# Altium integrated library NXP Semiconductors Automotive MOSFETs.IntLib: 540 symbols (part 14 of 16)
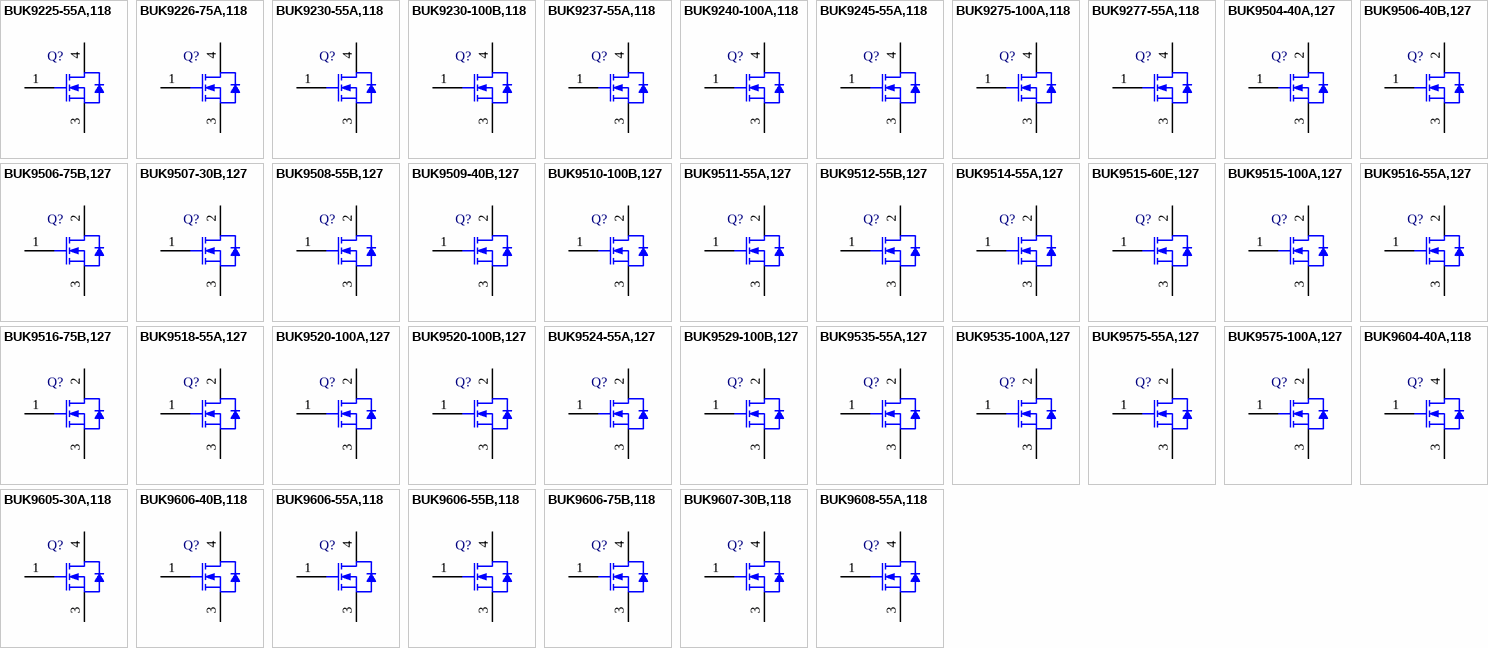
[diagram p27: symbols BUK9225-55A,118 to BUK9608-55A,118]

## BUK9606-40B,118
designator Q?
N-Channel TrenchMOS Logic Level FET, 40 V, 3-Pin SOT404, Tape and Reel; Manufacturer: NXP Semiconductors; PartNumber: BUK9606-40B,118; Automotive Qualified: Y; Channel Type: N; IDM [max] (A): 516; Packing: Tape & Reel; Qr [typ] (nC): 57; VDS [max] (V): 40; VGSth [typ] (V): 1.5; DatasheetVersion: Rev. 02; PackageVersion: 13-02-25, 02/2013; PackageReference: SOT404; PackageDescription: 3-Pin Plastic Single-ended Surface Mounted Package, Body 10 x 9.6 mm, Pitch 2.54 mm; Supplier 1: Digi-Key; Supplier Part Number 1: 568-5859-2-ND; Supplier 2: Digi-Key; Supplier Part Number 2: 568-5859-1-ND; Supplier 3: Digi-Key; Supplier Part Number 3: 568-5859-6-ND; Supplier 4: Mouser; Supplier Part Number 4: 771-BUK9606-40B118; Mounting Technology: Surface Mount; ComponentLink1Description: Manufacturer URL; ComponentLink1URL: http://www.nxp.com/; ComponentLink2Description: Datasheet; ComponentLink2URL: http://www.nxp.com/documents/data_sheet/BUK9606-40B.pdf; ComponentLink3Description: Package Specification; ComponentLink3URL: http://www.nxp.com/documents/outline_drawing/sot404_po.pdf
footprint NXP-SOT404_N (DPAK, 3-Leads, Body 10.3x9.8mm, Pitch 2.54mm, IPC Medium Density)
footprint NXP-SOT404_L (DPAK, 3-Leads, Body 10.3x9.8mm, Pitch 2.54mm, IPC High Density)
footprint NXP-SOT404_M (DPAK, 3-Leads, Body 10.3x9.8mm, Pitch 2.54mm, IPC Low Density)
pins: 1 G "gate", 3 S "source", 4 D "mounting base; connected to drain"

## BUK9606-55A,118
designator Q?
N-Channel TrenchMOS Logic Level FET, 55 V, 3-Pin SOT404, Tape and Reel; Manufacturer: NXP Semiconductors; PartNumber: BUK9606-55A,118; Automotive Qualified: Y; Channel Type: N; IDM [max] (A): 616; Packing: Tape & Reel; Qr [typ] (nC): 200; VDS [max] (V): 55; VGSth [typ] (V): 1.5; DatasheetVersion: Rev. 04; PackageVersion: 13-02-25, 02/2013; PackageReference: SOT404; PackageDescription: 3-Pin Plastic Single-ended Surface Mounted Package, Body 10 x 9.6 mm, Pitch 2.54 mm; Supplier 1: Digi-Key; Supplier Part Number 1: 568-9674-2-ND; Supplier 2: Digi-Key; Supplier Part Number 2: 568-9674-1-ND; Supplier 3: Digi-Key; Supplier Part Number 3: 568-9674-6-ND; Supplier 4: Mouser; Supplier Part Number 4: 771-BUK9606-55A118; Mounting Technology: Surface Mount; ComponentLink1Description: Manufacturer URL; ComponentLink1URL: http://www.nxp.com/; ComponentLink2Description: Datasheet; ComponentLink2URL: http://www.nxp.com/documents/data_sheet/BUK9606-55A.pdf; ComponentLink3Description: Package Specification; ComponentLink3URL: http://www.nxp.com/documents/outline_drawing/sot404_po.pdf
footprint NXP-SOT404_N (DPAK, 3-Leads, Body 10.3x9.8mm, Pitch 2.54mm, IPC Medium Density)
footprint NXP-SOT404_L (DPAK, 3-Leads, Body 10.3x9.8mm, Pitch 2.54mm, IPC High Density)
footprint NXP-SOT404_M (DPAK, 3-Leads, Body 10.3x9.8mm, Pitch 2.54mm, IPC Low Density)
pins: 1 G "gate", 3 S "source", 4 D "mounting base; connected to drain"

## BUK9606-55B,118
designator Q?
N-Channel TrenchMOS FET, 55 V, 3-Pin SOT404, Tape and Reel; Manufacturer: NXP Semiconductors; PartNumber: BUK9606-55B,118; Automotive Qualified: Y; Channel Type: N; IDM [max] (A): 587; Packing: Tape & Reel; Qr [typ] (nC): 79; VDS [max] (V): 55; VGSth [typ] (V): 1.5; DatasheetVersion: Rev. 04; PackageVersion: 13-02-25, 02/2013; PackageReference: SOT404; PackageDescription: 3-Pin Plastic Single-ended Surface Mounted Package, Body 10 x 9.6 mm, Pitch 2.54 mm; Supplier 1: Digi-Key; Supplier Part Number 1: 568-6584-2-ND; Supplier 2: Digi-Key; Supplier Part Number 2: 568-6584-1-ND; Supplier 3: Digi-Key; Supplier Part Number 3: 568-6584-6-ND; Supplier 4: Mouser; Supplier Part Number 4: 771-BUK9606-55B118; Mounting Technology: Surface Mount; ComponentLink1Description: Manufacturer URL; ComponentLink1URL: http://www.nxp.com/; ComponentLink2Description: Datasheet; ComponentLink2URL: http://www.nxp.com/documents/data_sheet/BUK9606-55B.pdf; ComponentLink3Description: Package Specification; ComponentLink3URL: http://www.nxp.com/documents/outline_drawing/sot404_po.pdf
footprint NXP-SOT404_N (DPAK, 3-Leads, Body 10.3x9.8mm, Pitch 2.54mm, IPC Medium Density)
footprint NXP-SOT404_L (DPAK, 3-Leads, Body 10.3x9.8mm, Pitch 2.54mm, IPC High Density)
footprint NXP-SOT404_M (DPAK, 3-Leads, Body 10.3x9.8mm, Pitch 2.54mm, IPC Low Density)
pins: 1 G "gate", 3 S "source", 4 D "mounting base; connected to drain"

## BUK9606-75B,118
designator Q?
N-Channel TrenchMOS Logic Level FET, 75 V, 3-Pin SOT404, Tape and Reel; Manufacturer: NXP Semiconductors; PartNumber: BUK9606-75B,118; Automotive Qualified: Y; Channel Type: N; IDM [max] (A): 612; Packing: Tape & Reel; Qr [typ] (nC): 176; VDS [max] (V): 75; VGSth [typ] (V): 1.5; DatasheetVersion: Rev. 4; PackageVersion: 13-02-25, 02/2013; PackageReference: SOT404; PackageDescription: 3-Pin Plastic Single-ended Surface Mounted Package, Body 10 x 9.6 mm, Pitch 2.54 mm; Supplier 1: Digi-Key; Supplier Part Number 1: 568-6585-2-ND; Supplier 2: Digi-Key; Supplier Part Number 2: 568-6585-1-ND; Supplier 3: Digi-Key; Supplier Part Number 3: 568-6585-6-ND; Supplier 4: Mouser; Supplier Part Number 4: 771-BUK9606-75B118; Mounting Technology: Surface Mount; ComponentLink1Description: Manufacturer URL; ComponentLink1URL: http://www.nxp.com/; ComponentLink2Description: Datasheet; ComponentLink2URL: http://www.nxp.com/documents/data_sheet/BUK9606-75B.pdf; ComponentLink3Description: Package Specification; ComponentLink3URL: http://www.nxp.com/documents/outline_drawing/sot404_po.pdf
footprint NXP-SOT404_N (DPAK, 3-Leads, Body 10.3x9.8mm, Pitch 2.54mm, IPC Medium Density)
footprint NXP-SOT404_L (DPAK, 3-Leads, Body 10.3x9.8mm, Pitch 2.54mm, IPC High Density)
footprint NXP-SOT404_M (DPAK, 3-Leads, Body 10.3x9.8mm, Pitch 2.54mm, IPC Low Density)
pins: 1 G "gate", 3 S "source", 4 D "mounting base; connected to drain"

## BUK9607-30B,118
designator Q?
N-Channel TrenchMOS Logic Level FET, 30 V, 3-Pin SOT404, Tape and Reel; Manufacturer: NXP Semiconductors; PartNumber: BUK9607-30B,118; Automotive Qualified: Y; Channel Type: N; IDM [max] (A): 435; Packing: Tape & Reel; Qr [typ] (nC): 35; VDS [max] (V): 30; VGSth [typ] (V): 1.5; DatasheetVersion: Rev. 02; PackageVersion: 13-02-25, 02/2013; PackageReference: SOT404; PackageDescription: 3-Pin Plastic Single-ended Surface Mounted Package, Body 10 x 9.6 mm, Pitch 2.54 mm; Supplier 1: Digi-Key; Supplier Part Number 1: 568-5860-2-ND; Supplier 2: Digi-Key; Supplier Part Number 2: 568-5860-1-ND; Supplier 3: Digi-Key; Supplier Part Number 3: 568-5860-6-ND; Supplier 4: Mouser; Supplier Part Number 4: 771-BUK9607-30B118; Mounting Technology: Surface Mount; ComponentLink1Description: Manufacturer URL; ComponentLink1URL: http://www.nxp.com/; ComponentLink2Description: Datasheet; ComponentLink2URL: http://www.nxp.com/documents/data_sheet/BUK9607-30B.pdf; ComponentLink3Description: Package Specification; ComponentLink3URL: http://www.nxp.com/documents/outline_drawing/sot404_po.pdf
footprint NXP-SOT404_N (DPAK, 3-Leads, Body 10.3x9.8mm, Pitch 2.54mm, IPC Medium Density)
footprint NXP-SOT404_L (DPAK, 3-Leads, Body 10.3x9.8mm, Pitch 2.54mm, IPC High Density)
footprint NXP-SOT404_M (DPAK, 3-Leads, Body 10.3x9.8mm, Pitch 2.54mm, IPC Low Density)
pins: 1 G "gate", 3 S "source", 4 D "mounting base; connected to drain"

## BUK9608-55A,118
designator Q?
N-Channel TrenchMOS Logic Level FET, 55 V, 3-Pin SOT404, Tape and Reel; Manufacturer: NXP Semiconductors; PartNumber: BUK9608-55A,118; Automotive Qualified: Y; Channel Type: N; IDM [max] (A): 503; Packing: Tape & Reel; Qr [typ] (nC): 170; VDS [max] (V): 55; VGSth [typ] (V): 1.5; DatasheetVersion: Rev. 04; PackageVersion: 13-02-25, 02/2013; PackageReference: SOT404; PackageDescription: 3-Pin Plastic Single-ended Surface Mounted Package, Body 10 x 9.6 mm, Pitch 2.54 mm; Supplier 1: Digi-Key; Supplier Part Number 1: 568-8031-2-ND; Supplier 2: Digi-Key; Supplier Part Number 2: 568-8031-1-ND; Supplier 3: Digi-Key; Supplier Part Number 3: 568-8031-6-ND; Supplier 4: Mouser; Supplier Part Number 4: 771-BUK9608-55A118; Mounting Technology: Surface Mount; ComponentLink1Description: Manufacturer URL; ComponentLink1URL: http://www.nxp.com/; ComponentLink2Description: Datasheet; ComponentLink2URL: http://www.nxp.com/documents/data_sheet/BUK9608-55A.pdf; ComponentLink3Description: Package Specification; ComponentLink3URL: http://www.nxp.com/documents/outline_drawing/sot404_po.pdf
footprint NXP-SOT404_N (DPAK, 3-Leads, Body 10.3x9.8mm, Pitch 2.54mm, IPC Medium Density)
footprint NXP-SOT404_L (DPAK, 3-Leads, Body 10.3x9.8mm, Pitch 2.54mm, IPC High Density)
footprint NXP-SOT404_M (DPAK, 3-Leads, Body 10.3x9.8mm, Pitch 2.54mm, IPC Low Density)
pins: 1 G "gate", 3 S "source", 4 D "mounting base; connected to drain"

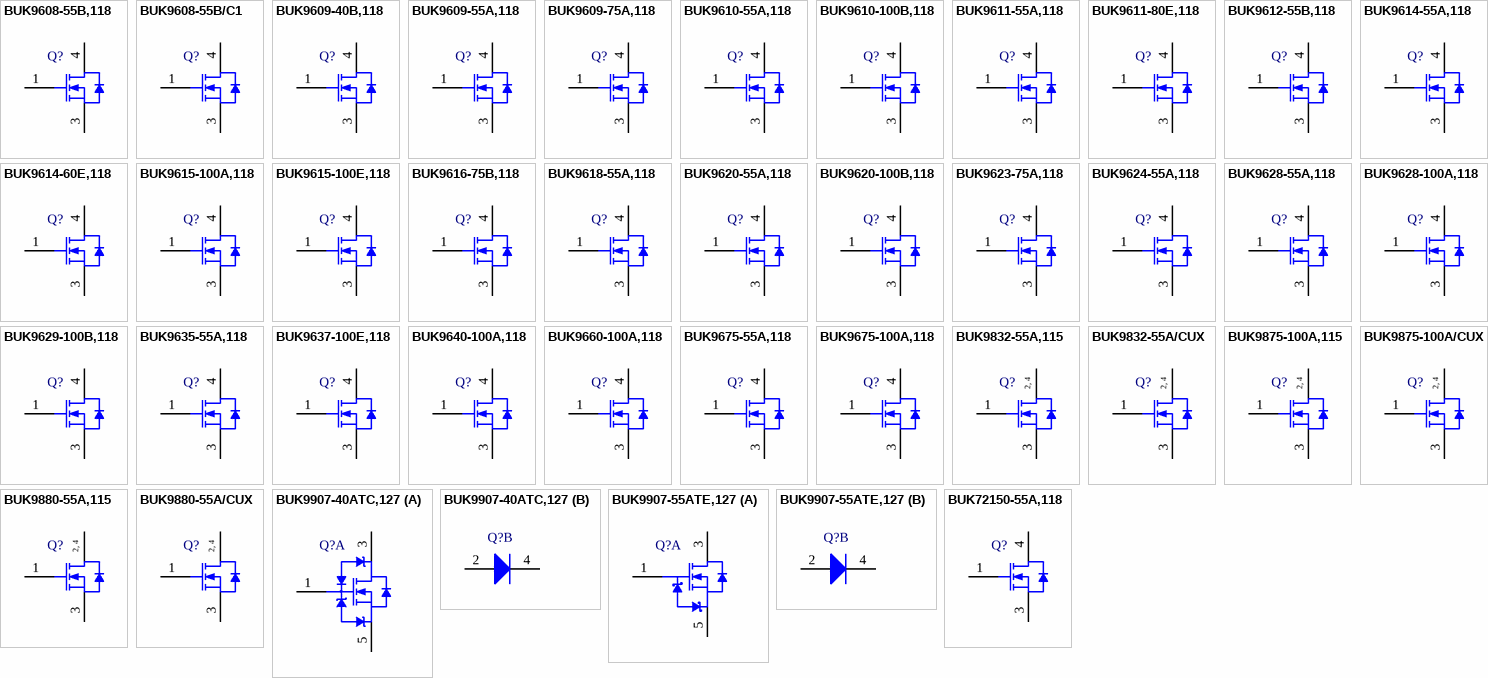
[diagram p13: symbols BUK9608-55B,118 to BUK72150-55A,118]

## BUK9608-55B,118
designator Q?
N-Channel TrenchMOS Logic Level FET, 55 V, 3-Pin SOT404, Tape and Reel; Manufacturer: NXP Semiconductors; PartNumber: BUK9608-55B,118; Automotive Qualified: Y; Channel Type: N; IDM [max] (A): 439; Packing: Tape & Reel; Qr [typ] (nC): 72; VDS [max] (V): 55; VGSth [typ] (V): 1.5; DatasheetVersion: Rev. 04; PackageVersion: 13-02-25, 02/2013; PackageReference: SOT404; PackageDescription: 3-Pin Plastic Single-ended Surface Mounted Package, Body 10 x 9.6 mm, Pitch 2.54 mm; Supplier 1: Digi-Key; Supplier Part Number 1: 568-5861-2-ND; Supplier 2: Digi-Key; Supplier Part Number 2: 568-5861-1-ND; Supplier 3: Digi-Key; Supplier Part Number 3: 568-5861-6-ND; Supplier 4: Newark; Supplier Part Number 4: 79R1859; Supplier 5: Newark; Supplier Part Number 5: 70R3592; Supplier 6: Mouser; Supplier Part Number 6: 771-BUK9608-55B118; Mounting Technology: Surface Mount; ComponentLink1Description: Manufacturer URL; ComponentLink1URL: http://www.nxp.com/; ComponentLink2Description: Datasheet; ComponentLink2URL: http://www.nxp.com/documents/data_sheet/BUK9608-55B.pdf; ComponentLink3Description: Package Specification; ComponentLink3URL: http://www.nxp.com/documents/outline_drawing/sot404_po.pdf
footprint NXP-SOT404_N (DPAK, 3-Leads, Body 10.3x9.8mm, Pitch 2.54mm, IPC Medium Density)
footprint NXP-SOT404_L (DPAK, 3-Leads, Body 10.3x9.8mm, Pitch 2.54mm, IPC High Density)
footprint NXP-SOT404_M (DPAK, 3-Leads, Body 10.3x9.8mm, Pitch 2.54mm, IPC Low Density)
pins: 1 G "gate", 3 S "source", 4 D "mounting base; connected to drain"

## BUK9608-55B/C1
designator Q?
N-Channel TrenchMOS Logic Level FET, 55 V, 3-Pin SOT404; Manufacturer: NXP Semiconductors; PartNumber: BUK9608-55B/C1; IDM [max] (A): 439; Qr [typ] (nC): 72; RDSon [max] @ Tj: 175degreesC (mOhm)=16.8; VGSth [typ] (V): 1.5; DatasheetVersion: Rev. 04; PackageVersion: 13-02-25, 02/2013; PackageReference: SOT404; PackageDescription: 3-Pin Plastic Single-ended Surface Mounted Package, Body 10 x 9.6 mm, Pitch 2.54 mm; Mounting Technology: Surface Mount; ComponentLink1Description: Manufacturer URL; ComponentLink1URL: http://www.nxp.com/; ComponentLink2Description: Datasheet; ComponentLink2URL: http://www.nxp.com/documents/data_sheet/BUK9608-55B.pdf; ComponentLink3Description: Package Specification; ComponentLink3URL: http://www.nxp.com/documents/outline_drawing/sot404_po.pdf
footprint NXP-SOT404_N (DPAK, 3-Leads, Body 10.3x9.8mm, Pitch 2.54mm, IPC Medium Density)
footprint NXP-SOT404_L (DPAK, 3-Leads, Body 10.3x9.8mm, Pitch 2.54mm, IPC High Density)
footprint NXP-SOT404_M (DPAK, 3-Leads, Body 10.3x9.8mm, Pitch 2.54mm, IPC Low Density)
pins: 1 G "gate", 3 S "source", 4 D "mounting base; connected to drain"

## BUK9609-40B,118
designator Q?
N-Channel TrenchMOS Logic Level FET, 40 V, 3-Pin SOT404, Tape and Reel; Manufacturer: NXP Semiconductors; PartNumber: BUK9609-40B,118; Automotive Qualified: Y; Channel Type: N; IDM [max] (A): 383; Packing: Tape & Reel; Qr [typ] (nC): 47; VDS [max] (V): 40; VGSth [typ] (V): 1.5; DatasheetVersion: Rev. 02; PackageVersion: 13-02-25, 02/2013; PackageReference: SOT404; PackageDescription: 3-Pin Plastic Single-ended Surface Mounted Package, Body 10 x 9.6 mm, Pitch 2.54 mm; Supplier 1: Digi-Key; Supplier Part Number 1: 568-5862-2-ND; Supplier 2: Digi-Key; Supplier Part Number 2: 568-5862-1-ND; Supplier 3: Digi-Key; Supplier Part Number 3: 568-5862-6-ND; Supplier 4: Mouser; Supplier Part Number 4: 771-BUK9609-40B118; Mounting Technology: Surface Mount; ComponentLink1Description: Manufacturer URL; ComponentLink1URL: http://www.nxp.com/; ComponentLink2Description: Datasheet; ComponentLink2URL: http://www.nxp.com/documents/data_sheet/BUK9609-40B.pdf; ComponentLink3Description: Package Specification; ComponentLink3URL: http://www.nxp.com/documents/outline_drawing/sot404_po.pdf
footprint NXP-SOT404_N (DPAK, 3-Leads, Body 10.3x9.8mm, Pitch 2.54mm, IPC Medium Density)
footprint NXP-SOT404_L (DPAK, 3-Leads, Body 10.3x9.8mm, Pitch 2.54mm, IPC High Density)
footprint NXP-SOT404_M (DPAK, 3-Leads, Body 10.3x9.8mm, Pitch 2.54mm, IPC Low Density)
pins: 1 G "gate", 3 S "source", 4 D "mounting base; connected to drain"

## BUK9609-55A,118
designator Q?
N-Channel TrenchMOS Logic Level FET, 55 V, 3-Pin SOT404, Tape and Reel; Manufacturer: NXP Semiconductors; PartNumber: BUK9609-55A,118; Automotive Qualified: Y; Channel Type: N; IDM [max] (A): 433; Packing: Tape & Reel; Qr [typ] (nC): 160; VDS [max] (V): 55; VGSth [typ] (V): 1.5; DatasheetVersion: Rev. 02; PackageVersion: 13-02-25, 02/2013; PackageReference: SOT404; PackageDescription: 3-Pin Plastic Single-ended Surface Mounted Package, Body 10 x 9.6 mm, Pitch 2.54 mm; Supplier 1: Digi-Key; Supplier Part Number 1: 568-9675-2-ND; Supplier 2: Digi-Key; Supplier Part Number 2: 568-9675-1-ND; Supplier 3: Digi-Key; Supplier Part Number 3: 568-9675-6-ND; Supplier 4: Mouser; Supplier Part Number 4: 771-BUK9609-55A118; Mounting Technology: Surface Mount; ComponentLink1Description: Manufacturer URL; ComponentLink1URL: http://www.nxp.com/; ComponentLink2Description: Datasheet; ComponentLink2URL: http://www.nxp.com/documents/data_sheet/BUK9609-55A.pdf; ComponentLink3Description: Package Specification; ComponentLink3URL: http://www.nxp.com/documents/outline_drawing/sot404_po.pdf
footprint NXP-SOT404_N (DPAK, 3-Leads, Body 10.3x9.8mm, Pitch 2.54mm, IPC Medium Density)
footprint NXP-SOT404_L (DPAK, 3-Leads, Body 10.3x9.8mm, Pitch 2.54mm, IPC High Density)
footprint NXP-SOT404_M (DPAK, 3-Leads, Body 10.3x9.8mm, Pitch 2.54mm, IPC Low Density)
pins: 1 G "gate", 3 S "source", 4 D "mounting base; connected to drain"

## BUK9609-75A,118
designator Q?
N-Channel TrenchMOS Logic Level FET, 75 V, 75 A, 3-Pin SOT404, Tape and Reel; Manufacturer: NXP Semiconductors; PartNumber: BUK9609-75A,118; Automotive Qualified: Y; Channel Type: N; ID [max] (A): 75; IDM [max] (A): 440; Packing: Tape & Reel; Qr [typ] (nC): 213; VGSth [typ] (V): 1.5; DatasheetVersion: Rev. 4; PackageVersion: 13-02-25, 02/2013; PackageReference: SOT404; PackageDescription: 3-Pin Plastic Single-ended Surface Mounted Package, Body 10 x 9.6 mm, Pitch 2.54 mm; Supplier 1: Digi-Key; Supplier Part Number 1: 568-9676-2-ND; Supplier 2: Digi-Key; Supplier Part Number 2: 568-9676-1-ND; Supplier 3: Digi-Key; Supplier Part Number 3: 568-9676-6-ND; Supplier 4: Mouser; Supplier Part Number 4: 771-BUK9609-75A118; VDS [max] (V): 75; Mounting Technology: Surface Mount; ComponentLink1Description: Manufacturer URL; ComponentLink1URL: http://www.nxp.com/; ComponentLink2Description: Datasheet; ComponentLink2URL: http://www.nxp.com/documents/data_sheet/BUK9609-75A.pdf; ComponentLink3Description: Package Specification; ComponentLink3URL: http://www.nxp.com/documents/outline_drawing/sot404_po.pdf
footprint NXP-SOT404_N (DPAK, 3-Leads, Body 10.3x9.8mm, Pitch 2.54mm, IPC Medium Density)
footprint NXP-SOT404_L (DPAK, 3-Leads, Body 10.3x9.8mm, Pitch 2.54mm, IPC High Density)
footprint NXP-SOT404_M (DPAK, 3-Leads, Body 10.3x9.8mm, Pitch 2.54mm, IPC Low Density)
pins: 1 G "gate", 3 S "source", 4 D "mounting base; connected to drain"

## BUK9610-55A,118
designator Q?
N-Channel TrenchMOS Logic Level FET, 55 V, 3-Pin SOT404, Tape and Reel; Manufacturer: NXP Semiconductors; PartNumber: BUK9610-55A,118; Automotive Qualified: Y; Channel Type: N; IDM [max] (A): 400; Packing: Tape & Reel; Qr [typ] (nC): 230; VDS [max] (V): 55; VGSth [typ] (V): 1.5; DatasheetVersion: Rev. 02; PackageVersion: 13-02-25, 02/2013; PackageReference: SOT404; PackageDescription: 3-Pin Plastic Single-ended Surface Mounted Package, Body 10 x 9.6 mm, Pitch 2.54 mm; Supplier 1: Digi-Key; Supplier Part Number 1: 568-9677-2-ND; Supplier 2: Digi-Key; Supplier Part Number 2: 568-9677-1-ND; Supplier 3: Digi-Key; Supplier Part Number 3: 568-9677-6-ND; Supplier 4: Mouser; Supplier Part Number 4: 771-BUK9610-55A118; Mounting Technology: Surface Mount; ComponentLink1Description: Manufacturer URL; ComponentLink1URL: http://www.nxp.com/; ComponentLink2Description: Datasheet; ComponentLink2URL: http://www.nxp.com/documents/data_sheet/BUK9610-55A.pdf; ComponentLink3Description: Package Specification; ComponentLink3URL: http://www.nxp.com/documents/outline_drawing/sot404_po.pdf
footprint NXP-SOT404_N (DPAK, 3-Leads, Body 10.3x9.8mm, Pitch 2.54mm, IPC Medium Density)
footprint NXP-SOT404_L (DPAK, 3-Leads, Body 10.3x9.8mm, Pitch 2.54mm, IPC High Density)
footprint NXP-SOT404_M (DPAK, 3-Leads, Body 10.3x9.8mm, Pitch 2.54mm, IPC Low Density)
pins: 1 G "gate", 3 S "source", 4 D "mounting base; connected to drain"

## BUK9610-100B,118
designator Q?
N-Channel TrenchMOS Logic Level FET, 100 V, 3-Pin SOT404, Tape and Reel; Manufacturer: NXP Semiconductors; PartNumber: BUK9610-100B,118; Automotive Qualified: Y; Channel Type: N; IDM [max] (A): 438; Packing: Tape & Reel; Qr [typ] (nC): 268; VDS [max] (V): 100; VGSth [typ] (V): 1.5; DatasheetVersion: Rev. 03; PackageVersion: 13-02-25, 02/2013; PackageReference: SOT404; PackageDescription: 3-Pin Plastic Single-ended Surface Mounted Package, Body 10 x 9.6 mm, Pitch 2.54 mm; Supplier 1: Digi-Key; Supplier Part Number 1: 568-6586-2-ND; Supplier 2: Digi-Key; Supplier Part Number 2: 568-6586-1-ND; Supplier 3: Digi-Key; Supplier Part Number 3: 568-6586-6-ND; Supplier 4: Newark; Supplier Part Number 4: 70R3596; Supplier 5: Mouser; Supplier Part Number 5: 771-BUK9610-100B118; Mounting Technology: Surface Mount; ComponentLink1Description: Manufacturer URL; ComponentLink1URL: http://www.nxp.com/; ComponentLink2Description: Datasheet; ComponentLink2URL: http://www.nxp.com/documents/data_sheet/BUK9610-100B.pdf; ComponentLink3Description: Package Specification; ComponentLink3URL: http://www.nxp.com/documents/outline_drawing/sot404_po.pdf
footprint NXP-SOT404_N (DPAK, 3-Leads, Body 10.3x9.8mm, Pitch 2.54mm, IPC Medium Density)
footprint NXP-SOT404_L (DPAK, 3-Leads, Body 10.3x9.8mm, Pitch 2.54mm, IPC High Density)
footprint NXP-SOT404_M (DPAK, 3-Leads, Body 10.3x9.8mm, Pitch 2.54mm, IPC Low Density)
pins: 1 G "gate", 3 S "source", 4 D "mounting base; connected to drain"

## BUK9611-55A,118
designator Q?
N-Channel TrenchMOS Logic Level FET, 55 V, 75 A, 3-Pin SOT404, Tape and Reel; Manufacturer: NXP Semiconductors; PartNumber: BUK9611-55A,118; Automotive Qualified: Y; Channel Type: N; ID [max] (A): 75; IDM [max] (A): 266; Packing: Tape & Reel; Qr [typ] (nC): 230; VDS [max] (V): 55; VGSth [typ] (V): 1.5; DatasheetVersion: Rev. 2; PackageVersion: 13-02-25, 02/2013; PackageReference: SOT404; PackageDescription: 3-Pin Plastic Single-ended Surface Mounted Package, Body 10 x 9.6 mm, Pitch 2.54 mm; Supplier 1: Digi-Key; Supplier Part Number 1: BUK9611-55A,118-ND; Supplier 2: Mouser; Supplier Part Number 2: 771-BUK9611-55A118; Mounting Technology: Surface Mount; ComponentLink1Description: Manufacturer URL; ComponentLink1URL: http://www.nxp.com/; ComponentLink2Description: Datasheet; ComponentLink2URL: http://www.nxp.com/documents/data_sheet/BUK9611-55A.pdf; ComponentLink3Description: Package Specification; ComponentLink3URL: http://www.nxp.com/documents/outline_drawing/sot404_po.pdf
footprint NXP-SOT404_N (DPAK, 3-Leads, Body 10.3x9.8mm, Pitch 2.54mm, IPC Medium Density)
footprint NXP-SOT404_L (DPAK, 3-Leads, Body 10.3x9.8mm, Pitch 2.54mm, IPC High Density)
footprint NXP-SOT404_M (DPAK, 3-Leads, Body 10.3x9.8mm, Pitch 2.54mm, IPC Low Density)
pins: 1 G "gate", 3 S "source", 4 D "mounting base; connected to drain"

## BUK9611-80E,118
designator Q?
N-Channel TrenchMOS Logic Level FET, 80 V, 75 A, 3-Pin SOT404, Tape and Reel; Manufacturer: NXP Semiconductors; PartNumber: BUK9611-80E,118; Automotive Qualified: Y; Channel Type: N; ID [max] (A): 75; IDM [max] (A): 327; Packing: Tape & Reel; Qr [typ] (nC): 61.5; VDS [max] (V): 80; VGSth [typ] (V): 1.7; PackageVersion: 13-02-25, 02/2013; PackageReference: SOT404; PackageDescription: 3-Pin Plastic Single-ended Surface Mounted Package, Body 10 x 9.6 mm, Pitch 2.54 mm; Supplier 1: Digi-Key; Supplier Part Number 1: 568-10246-2-ND; Supplier 2: Digi-Key; Supplier Part Number 2: 568-10246-1-ND; Supplier 3: Digi-Key; Supplier Part Number 3: 568-10246-6-ND; Supplier 4: Mouser; Supplier Part Number 4: 771-BUK9611-80E118; Mounting Technology: Surface Mount; ComponentLink1Description: Manufacturer URL; ComponentLink1URL: http://www.nxp.com/; ComponentLink2Description: Datasheet; ComponentLink2URL: http://www.nxp.com/documents/data_sheet/BUK9611-80E.pdf; ComponentLink3Description: Package Specification; ComponentLink3URL: http://www.nxp.com/documents/outline_drawing/sot404_po.pdf
footprint NXP-SOT404_N (DPAK, 3-Leads, Body 10.3x9.8mm, Pitch 2.54mm, IPC Medium Density)
footprint NXP-SOT404_L (DPAK, 3-Leads, Body 10.3x9.8mm, Pitch 2.54mm, IPC High Density)
footprint NXP-SOT404_M (DPAK, 3-Leads, Body 10.3x9.8mm, Pitch 2.54mm, IPC Low Density)
pins: 1 G "gate", 3 S "source", 4 D "mounting base; connected to drain"

## BUK9612-55B,118
designator Q?
N-Channel TrenchMOS Logic Level FET, 55 V, 3-Pin SOT404, Tape and Reel; Manufacturer: NXP Semiconductors; PartNumber: BUK9612-55B,118; Automotive Qualified: Y; Channel Type: N; IDM [max] (A): 322; Packing: Tape & Reel; Qr [typ] (nC): 53; VDS [max] (V): 55; VGSth [typ] (V): 1.5; DatasheetVersion: Rev. 02; PackageVersion: 13-02-25, 02/2013; PackageReference: SOT404; PackageDescription: 3-Pin Plastic Single-ended Surface Mounted Package, Body 10 x 9.6 mm, Pitch 2.54 mm; Supplier 1: Digi-Key; Supplier Part Number 1: 568-5863-2-ND; Supplier 2: Digi-Key; Supplier Part Number 2: 568-5863-1-ND; Supplier 3: Digi-Key; Supplier Part Number 3: 568-5863-6-ND; Supplier 4: Newark; Supplier Part Number 4: 70R3599; Supplier 5: Mouser; Supplier Part Number 5: 771-BUK9612-55B118; Mounting Technology: Surface Mount; ComponentLink1Description: Manufacturer URL; ComponentLink1URL: http://www.nxp.com/; ComponentLink2Description: Datasheet; ComponentLink2URL: http://www.nxp.com/documents/data_sheet/BUK9612-55B.pdf; ComponentLink3Description: Package Specification; ComponentLink3URL: http://www.nxp.com/documents/outline_drawing/sot404_po.pdf
footprint NXP-SOT404_N (DPAK, 3-Leads, Body 10.3x9.8mm, Pitch 2.54mm, IPC Medium Density)
footprint NXP-SOT404_L (DPAK, 3-Leads, Body 10.3x9.8mm, Pitch 2.54mm, IPC High Density)
footprint NXP-SOT404_M (DPAK, 3-Leads, Body 10.3x9.8mm, Pitch 2.54mm, IPC Low Density)
pins: 1 G "gate", 3 S "source", 4 D "mounting base; connected to drain"

## BUK9614-55A,118
designator Q?
N-Channel TrenchMOS Logic Level FET, 55 V, 73 A, 3-Pin SOT404, Tape and Reel; Manufacturer: NXP Semiconductors; PartNumber: BUK9614-55A,118; Automotive Qualified: Y; Channel Type: N; ID [max] (A): 73; IDM [max] (A): 266; Packing: Tape & Reel; Qr [typ] (nC): 121; VDS [max] (V): 55; VGSth [typ] (V): 1.5; DatasheetVersion: Rev. 02; PackageVersion: 13-02-25, 02/2013; PackageReference: SOT404; PackageDescription: 3-Pin Plastic Single-ended Surface Mounted Package, Body 10 x 9.6 mm, Pitch 2.54 mm; Supplier 1: Digi-Key; Supplier Part Number 1: BUK9614-55A,118-ND; Supplier 2: Mouser; Supplier Part Number 2: 771-BUK9614-55A118; Mounting Technology: Surface Mount; ComponentLink1Description: Manufacturer URL; ComponentLink1URL: http://www.nxp.com/; ComponentLink2Description: Datasheet; ComponentLink2URL: http://www.nxp.com/documents/data_sheet/BUK9614-55A.pdf; ComponentLink3Description: Package Specification; ComponentLink3URL: http://www.nxp.com/documents/outline_drawing/sot404_po.pdf
footprint NXP-SOT404_N (DPAK, 3-Leads, Body 10.3x9.8mm, Pitch 2.54mm, IPC Medium Density)
footprint NXP-SOT404_L (DPAK, 3-Leads, Body 10.3x9.8mm, Pitch 2.54mm, IPC High Density)
footprint NXP-SOT404_M (DPAK, 3-Leads, Body 10.3x9.8mm, Pitch 2.54mm, IPC Low Density)
pins: 1 G "gate", 3 S "source", 4 D "mounting base; connected to drain"

## BUK9614-60E,118
designator Q?
N-Channel TrenchMOS Logic Level FET, 60 V, 56 A, 3-Pin SOT404, Tape and Reel; Manufacturer: NXP Semiconductors; PartNumber: BUK9614-60E,118; Automotive Qualified: Y; Channel Type: N; ID [max] (A): 56; IDM [max] (A): 224; Packing: Tape & Reel; Qr [typ] (nC): 20.9; VDS [max] (V): 60; VGSth [typ] (V): 1.7; PackageVersion: 13-02-25, 02/2013; PackageReference: SOT404; PackageDescription: 3-Pin Plastic Single-ended Surface Mounted Package, Body 10 x 9.6 mm, Pitch 2.54 mm; Supplier 1: Digi-Key; Supplier Part Number 1: 568-9888-2-ND; Supplier 2: Digi-Key; Supplier Part Number 2: 568-9888-1-ND; Supplier 3: Digi-Key; Supplier Part Number 3: 568-9888-6-ND; Supplier 4: Mouser; Supplier Part Number 4: 771-BUK9614-60E118; Mounting Technology: Surface Mount; ComponentLink1Description: Manufacturer URL; ComponentLink1URL: http://www.nxp.com/; ComponentLink2Description: Datasheet; ComponentLink2URL: http://www.nxp.com/documents/data_sheet/BUK9614-60E.pdf; ComponentLink3Description: Package Specification; ComponentLink3URL: http://www.nxp.com/documents/outline_drawing/sot404_po.pdf
footprint NXP-SOT404_N (DPAK, 3-Leads, Body 10.3x9.8mm, Pitch 2.54mm, IPC Medium Density)
footprint NXP-SOT404_L (DPAK, 3-Leads, Body 10.3x9.8mm, Pitch 2.54mm, IPC High Density)
footprint NXP-SOT404_M (DPAK, 3-Leads, Body 10.3x9.8mm, Pitch 2.54mm, IPC Low Density)
pins: 1 G "gate", 3 S "source", 4 D "mounting base; connected to drain"

## BUK9615-100A,118
designator Q?
N-Channel TrenchMOS Logic Level FET, 100 V, 75 A, 3-Pin SOT404, Tape and Reel; Manufacturer: NXP Semiconductors; PartNumber: BUK9615-100A,118; Automotive Qualified: Y; Channel Type: N; ID [max] (A): 75; IDM [max] (A): 313; Packing: Tape & Reel; Qr [typ] (nC): 240; VDS [max] (V): 100; VGSth [typ] (V): 1.5; DatasheetVersion: Rev. 3; PackageVersion: 13-02-25, 02/2013; PackageReference: SOT404; PackageDescription: 3-Pin Plastic Single-ended Surface Mounted Package, Body 10 x 9.6 mm, Pitch 2.54 mm; Supplier 1: Digi-Key; Supplier Part Number 1: 568-9678-2-ND; Supplier 2: Digi-Key; Supplier Part Number 2: 568-9678-1-ND; Supplier 3: Digi-Key; Supplier Part Number 3: 568-9678-6-ND; Supplier 4: Mouser; Supplier Part Number 4: 771-BUK9615-100A118; Mounting Technology: Surface Mount; ComponentLink1Description: Manufacturer URL; ComponentLink1URL: http://www.nxp.com/; ComponentLink2Description: Datasheet; ComponentLink2URL: http://www.nxp.com/documents/data_sheet/BUK9615-100A.pdf; ComponentLink3Description: Package Specification; ComponentLink3URL: http://www.nxp.com/documents/outline_drawing/sot404_po.pdf
footprint NXP-SOT404_N (DPAK, 3-Leads, Body 10.3x9.8mm, Pitch 2.54mm, IPC Medium Density)
footprint NXP-SOT404_L (DPAK, 3-Leads, Body 10.3x9.8mm, Pitch 2.54mm, IPC High Density)
footprint NXP-SOT404_M (DPAK, 3-Leads, Body 10.3x9.8mm, Pitch 2.54mm, IPC Low Density)
pins: 1 G "gate", 3 S "source", 4 D "mounting base; connected to drain"

## BUK9615-100E,118
designator Q?
N-Channel TrenchMOS Logic Level FET, 100 V, 66 A, 3-Pin SOT404, Tape and Reel; Manufacturer: NXP Semiconductors; PartNumber: BUK9615-100E,118; Automotive Qualified: Y; Channel Type: N; ID [max] (A): 66; IDM [max] (A): 266; Packing: Tape & Reel; Qr [typ] (nC): 115; VDS [max] (V): 100; VGSth [typ] (V): 1.7; PackageVersion: 13-02-25, 02/2013; PackageReference: SOT404; PackageDescription: 3-Pin Plastic Single-ended Surface Mounted Package, Body 10 x 9.6 mm, Pitch 2.54 mm; Supplier 1: Digi-Key; Supplier Part Number 1: 568-10247-2-ND; Supplier 2: Digi-Key; Supplier Part Number 2: 568-10247-1-ND; Supplier 3: Digi-Key; Supplier Part Number 3: 568-10247-6-ND; Supplier 4: Mouser; Supplier Part Number 4: 771-BUK9615-100E118; Mounting Technology: Surface Mount; ComponentLink1Description: Manufacturer URL; ComponentLink1URL: http://www.nxp.com/; ComponentLink2Description: Datasheet; ComponentLink2URL: http://www.nxp.com/documents/data_sheet/BUK9615-100E.pdf; ComponentLink3Description: Package Specification; ComponentLink3URL: http://www.nxp.com/documents/outline_drawing/sot404_po.pdf
footprint NXP-SOT404_N (DPAK, 3-Leads, Body 10.3x9.8mm, Pitch 2.54mm, IPC Medium Density)
footprint NXP-SOT404_L (DPAK, 3-Leads, Body 10.3x9.8mm, Pitch 2.54mm, IPC High Density)
footprint NXP-SOT404_M (DPAK, 3-Leads, Body 10.3x9.8mm, Pitch 2.54mm, IPC Low Density)
pins: 1 G "gate", 3 S "source", 4 D "mounting base; connected to drain"

## BUK9616-75B,118
designator Q?
N-Channel TrenchMOS Logic Level FET, 75 V, 67 A, 3-Pin SOT404, Tape and Reel; Manufacturer: NXP Semiconductors; PartNumber: BUK9616-75B,118; Automotive Qualified: Y; Channel Type: N; ID [max] (A): 67; IDM [max] (A): 270; Packing: Tape & Reel; Qr [typ] (nC): 138; VDS [max] (V): 75; VGSth [typ] (V): 1.5; DatasheetVersion: Rev. 02; PackageVersion: 13-02-25, 02/2013; PackageReference: SOT404; PackageDescription: 3-Pin Plastic Single-ended Surface Mounted Package, Body 10 x 9.6 mm, Pitch 2.54 mm; Supplier 1: Digi-Key; Supplier Part Number 1: 568-5864-2-ND; Supplier 2: Digi-Key; Supplier Part Number 2: 568-5864-1-ND; Supplier 3: Digi-Key; Supplier Part Number 3: 568-5864-6-ND; Supplier 4: Mouser; Supplier Part Number 4: 771-BUK9616-75B118; Mounting Technology: Surface Mount; ComponentLink1Description: Manufacturer URL; ComponentLink1URL: http://www.nxp.com/; ComponentLink2Description: Datasheet; ComponentLink2URL: http://www.nxp.com/documents/data_sheet/BUK9616-75B.pdf; ComponentLink3Description: Package Specification; ComponentLink3URL: http://www.nxp.com/documents/outline_drawing/sot404_po.pdf
footprint NXP-SOT404_N (DPAK, 3-Leads, Body 10.3x9.8mm, Pitch 2.54mm, IPC Medium Density)
footprint NXP-SOT404_L (DPAK, 3-Leads, Body 10.3x9.8mm, Pitch 2.54mm, IPC High Density)
footprint NXP-SOT404_M (DPAK, 3-Leads, Body 10.3x9.8mm, Pitch 2.54mm, IPC Low Density)
pins: 1 G "gate", 3 S "source", 4 D "mounting base; connected to drain"

## BUK9618-55A,118
designator Q?
N-Channel TrenchMOS Logic Level FET, 55 V, 61 A, 3-Pin SOT404, Tape and Reel; Manufacturer: NXP Semiconductors; PartNumber: BUK9618-55A,118; Automotive Qualified: Y; Channel Type: N; ID [max] (A): 61; IDM [max] (A): 246; Packing: Tape & Reel; Qr [typ] (nC): 101; VDS [max] (V): 55; VGSth [typ] (V): 1.5; DatasheetVersion: Rev. 02; PackageVersion: 13-02-25, 02/2013; PackageReference: SOT404; PackageDescription: 3-Pin Plastic Single-ended Surface Mounted Package, Body 10 x 9.6 mm, Pitch 2.54 mm; Supplier 1: Digi-Key; Supplier Part Number 1: 568-9679-2-ND; Supplier 2: Digi-Key; Supplier Part Number 2: 568-9679-1-ND; Supplier 3: Digi-Key; Supplier Part Number 3: 568-9679-6-ND; Supplier 4: Mouser; Supplier Part Number 4: 771-BUK9618-55A118; Mounting Technology: Surface Mount; ComponentLink1Description: Manufacturer URL; ComponentLink1URL: http://www.nxp.com/; ComponentLink2Description: Datasheet; ComponentLink2URL: http://www.nxp.com/documents/data_sheet/BUK9618-55A.pdf; ComponentLink3Description: Package Specification; ComponentLink3URL: http://www.nxp.com/documents/outline_drawing/sot404_po.pdf
footprint NXP-SOT404_N (DPAK, 3-Leads, Body 10.3x9.8mm, Pitch 2.54mm, IPC Medium Density)
footprint NXP-SOT404_L (DPAK, 3-Leads, Body 10.3x9.8mm, Pitch 2.54mm, IPC High Density)
footprint NXP-SOT404_M (DPAK, 3-Leads, Body 10.3x9.8mm, Pitch 2.54mm, IPC Low Density)
pins: 1 G "gate", 3 S "source", 4 D "mounting base; connected to drain"

## BUK9620-55A,118
designator Q?
N-Channel TrenchMOS Logic Level FET, 55 V, 54 A, 3-Pin SOT404, Tape and Reel; Manufacturer: NXP Semiconductors; PartNumber: BUK9620-55A,118; Automotive Qualified: Y; Channel Type: N; ID [max] (A): 54; IDM [max] (A): 217; Packing: Tape & Reel; Qr [typ] (nC): 81; VDS [max] (V): 55; VGSth [typ] (V): 1.5; DatasheetVersion: Rev. 02; PackageVersion: 13-02-25, 02/2013; PackageReference: SOT404; PackageDescription: 3-Pin Plastic Single-ended Surface Mounted Package, Body 10 x 9.6 mm, Pitch 2.54 mm; Supplier 1: Digi-Key; Supplier Part Number 1: 568-9681-2-ND; Supplier 2: Digi-Key; Supplier Part Number 2: 568-9681-1-ND; Supplier 3: Digi-Key; Supplier Part Number 3: 568-9681-6-ND; Supplier 4: Mouser; Supplier Part Number 4: 771-BUK9620-55A118; Mounting Technology: Surface Mount; ComponentLink1Description: Manufacturer URL; ComponentLink1URL: http://www.nxp.com/; ComponentLink2Description: Datasheet; ComponentLink2URL: http://www.nxp.com/documents/data_sheet/BUK9620-55A.pdf; ComponentLink3Description: Package Specification; ComponentLink3URL: http://www.nxp.com/documents/outline_drawing/sot404_po.pdf
footprint NXP-SOT404_N (DPAK, 3-Leads, Body 10.3x9.8mm, Pitch 2.54mm, IPC Medium Density)
footprint NXP-SOT404_L (DPAK, 3-Leads, Body 10.3x9.8mm, Pitch 2.54mm, IPC High Density)
footprint NXP-SOT404_M (DPAK, 3-Leads, Body 10.3x9.8mm, Pitch 2.54mm, IPC Low Density)
pins: 1 G "gate", 3 S "source", 4 D "mounting base; connected to drain"

## BUK9620-100B,118
designator Q?
N-Channel TrenchMOS Logic Level FET, 100 V, 63 A, 3-Pin SOT404, Tape and Reel; Manufacturer: NXP Semiconductors; PartNumber: BUK9620-100B,118; Automotive Qualified: Y; Channel Type: N; ID [max] (A): 63; IDM [max] (A): 253; Packing: Tape & Reel; Qr [typ] (nC): 272; VDS [max] (V): 100; VGSth [typ] (V): 1.58; DatasheetVersion: Rev. 02; PackageVersion: 13-02-25, 02/2013; PackageReference: SOT404; PackageDescription: 3-Pin Plastic Single-ended Surface Mounted Package, Body 10 x 9.6 mm, Pitch 2.54 mm; Supplier 1: Digi-Key; Supplier Part Number 1: 568-5865-2-ND; Supplier 2: Digi-Key; Supplier Part Number 2: 568-5865-1-ND; Supplier 3: Digi-Key; Supplier Part Number 3: 568-5865-6-ND; Supplier 4: Mouser; Supplier Part Number 4: 771-BUK9620-100B118; Mounting Technology: Surface Mount; ComponentLink1Description: Manufacturer URL; ComponentLink1URL: http://www.nxp.com/; ComponentLink2Description: Datasheet; ComponentLink2URL: http://www.nxp.com/documents/data_sheet/BUK9620-100B.pdf; ComponentLink3Description: Package Specification; ComponentLink3URL: http://www.nxp.com/documents/outline_drawing/sot404_po.pdf
footprint NXP-SOT404_N (DPAK, 3-Leads, Body 10.3x9.8mm, Pitch 2.54mm, IPC Medium Density)
footprint NXP-SOT404_L (DPAK, 3-Leads, Body 10.3x9.8mm, Pitch 2.54mm, IPC High Density)
footprint NXP-SOT404_M (DPAK, 3-Leads, Body 10.3x9.8mm, Pitch 2.54mm, IPC Low Density)
pins: 1 G "gate", 3 S "source", 4 D "mounting base; connected to drain"

## BUK9623-75A,118
designator Q?
N-Channel TrenchMOS Logic Level FET, 75 V, 53 A, 3-Pin SOT404, Tape and Reel; Manufacturer: NXP Semiconductors; PartNumber: BUK9623-75A,118; Automotive Qualified: Y; Channel Type: N; ID [max] (A): 53; IDM [max] (A): 213; Packing: Tape & Reel; Qr [typ] (nC): 115; VDS [max] (V): 75; VGSth [typ] (V): 1.5; DatasheetVersion: Rev. 02; PackageVersion: 13-02-25, 02/2013; PackageReference: SOT404; PackageDescription: 3-Pin Plastic Single-ended Surface Mounted Package, Body 10 x 9.6 mm, Pitch 2.54 mm; Supplier 1: Digi-Key; Supplier Part Number 1: BUK9623-75A,118-ND; Supplier 2: Mouser; Supplier Part Number 2: 771-BUK9623-75A118; Mounting Technology: Surface Mount; ComponentLink1Description: Manufacturer URL; ComponentLink1URL: http://www.nxp.com/; ComponentLink2Description: Datasheet; ComponentLink2URL: http://www.nxp.com/documents/data_sheet/BUK9623-75A.pdf; ComponentLink3Description: Package Specification; ComponentLink3URL: http://www.nxp.com/documents/outline_drawing/sot404_po.pdf
footprint NXP-SOT404_N (DPAK, 3-Leads, Body 10.3x9.8mm, Pitch 2.54mm, IPC Medium Density)
footprint NXP-SOT404_L (DPAK, 3-Leads, Body 10.3x9.8mm, Pitch 2.54mm, IPC High Density)
footprint NXP-SOT404_M (DPAK, 3-Leads, Body 10.3x9.8mm, Pitch 2.54mm, IPC Low Density)
pins: 1 G "gate", 3 S "source", 4 D "mounting base; connected to drain"

## BUK9624-55A,118
designator Q?
N-Channel TrenchMOS Logic Level FET, 55 V, 46 A, 3-Pin SOT404, Tape and Reel; Manufacturer: NXP Semiconductors; PartNumber: BUK9624-55A,118; Automotive Qualified: Y; Channel Type: N; ID [max] (A): 46; IDM [max] (A): 188; Packing: Tape & Reel; Qr [typ] (nC): 85; VDS [max] (V): 55; VGSth [typ] (V): 1.5; DatasheetVersion: Rev. 02; PackageVersion: 13-02-25, 02/2013; PackageReference: SOT404; PackageDescription: 3-Pin Plastic Single-ended Surface Mounted Package, Body 10 x 9.6 mm, Pitch 2.54 mm; Supplier 1: Digi-Key; Supplier Part Number 1: 568-9682-2-ND; Supplier 2: Digi-Key; Supplier Part Number 2: 568-9682-1-ND; Supplier 3: Digi-Key; Supplier Part Number 3: 568-9682-6-ND; Supplier 4: Newark; Supplier Part Number 4: 79R1861; Supplier 5: Mouser; Supplier Part Number 5: 771-BUK9624-55A118; Mounting Technology: Surface Mount; ComponentLink1Description: Manufacturer URL; ComponentLink1URL: http://www.nxp.com/; ComponentLink2Description: Datasheet; ComponentLink2URL: http://www.nxp.com/documents/data_sheet/BUK9624-55A.pdf; ComponentLink3Description: Package Specification; ComponentLink3URL: http://www.nxp.com/documents/outline_drawing/sot404_po.pdf
footprint NXP-SOT404_N (DPAK, 3-Leads, Body 10.3x9.8mm, Pitch 2.54mm, IPC Medium Density)
footprint NXP-SOT404_L (DPAK, 3-Leads, Body 10.3x9.8mm, Pitch 2.54mm, IPC High Density)
footprint NXP-SOT404_M (DPAK, 3-Leads, Body 10.3x9.8mm, Pitch 2.54mm, IPC Low Density)
pins: 1 G "gate", 3 S "source", 4 D "mounting base; connected to drain"

## BUK9628-55A,118
designator Q?
N-Channel TrenchMOS Logic Level FET, 55 V, 42 A, 3-Pin SOT404, Tape and Reel; Manufacturer: NXP Semiconductors; PartNumber: BUK9628-55A,118; Automotive Qualified: Y; Channel Type: N; ID [max] (A): 42; IDM [max] (A): 168; Packing: Tape & Reel; Qr [typ] (nC): 70; VDS [max] (V): 55; VGSth [typ] (V): 1.5; DatasheetVersion: Rev. 02; PackageVersion: 13-02-25, 02/2013; PackageReference: SOT404; PackageDescription: 3-Pin Plastic Single-ended Surface Mounted Package, Body 10 x 9.6 mm, Pitch 2.54 mm; Supplier 1: Digi-Key; Supplier Part Number 1: 568-9684-2-ND; Supplier 2: Digi-Key; Supplier Part Number 2: 568-9684-1-ND; Supplier 3: Digi-Key; Supplier Part Number 3: 568-9684-6-ND; Supplier 4: Mouser; Supplier Part Number 4: 771-BUK9628-55A118; Mounting Technology: Surface Mount; ComponentLink1Description: Manufacturer URL; ComponentLink1URL: http://www.nxp.com/; ComponentLink2Description: Datasheet; ComponentLink2URL: http://www.nxp.com/documents/data_sheet/BUK9628-55A.pdf; ComponentLink3Description: Package Specification; ComponentLink3URL: http://www.nxp.com/documents/outline_drawing/sot404_po.pdf
footprint NXP-SOT404_N (DPAK, 3-Leads, Body 10.3x9.8mm, Pitch 2.54mm, IPC Medium Density)
footprint NXP-SOT404_L (DPAK, 3-Leads, Body 10.3x9.8mm, Pitch 2.54mm, IPC High Density)
footprint NXP-SOT404_M (DPAK, 3-Leads, Body 10.3x9.8mm, Pitch 2.54mm, IPC Low Density)
pins: 1 G "gate", 3 S "source", 4 D "mounting base; connected to drain"

## BUK9628-100A,118
designator Q?
N-Channel TrenchMOS Logic Level FET, 100 V, 49 A, 3-Pin SOT404, Tape and Reel; Manufacturer: NXP Semiconductors; PartNumber: BUK9628-100A,118; Automotive Qualified: Y; Channel Type: N; ID [max] (A): 49; IDM [max] (A): 195; Packing: Tape & Reel; Qr [typ] (nC): 220; VDS [max] (V): 100; VGSth [typ] (V): 1.5; DatasheetVersion: Rev. 02; PackageVersion: 13-02-25, 02/2013; PackageReference: SOT404; PackageDescription: 3-Pin Plastic Single-ended Surface Mounted Package, Body 10 x 9.6 mm, Pitch 2.54 mm; Supplier 1: Digi-Key; Supplier Part Number 1: 568-9683-2-ND; Supplier 2: Digi-Key; Supplier Part Number 2: 568-9683-1-ND; Supplier 3: Digi-Key; Supplier Part Number 3: 568-9683-6-ND; Supplier 4: Mouser; Supplier Part Number 4: 771-BUK9628-100A118; Mounting Technology: Surface Mount; ComponentLink1Description: Manufacturer URL; ComponentLink1URL: http://www.nxp.com/; ComponentLink2Description: Datasheet; ComponentLink2URL: http://www.nxp.com/documents/data_sheet/BUK9628-100A.pdf; ComponentLink3Description: Package Specification; ComponentLink3URL: http://www.nxp.com/documents/outline_drawing/sot404_po.pdf
footprint NXP-SOT404_N (DPAK, 3-Leads, Body 10.3x9.8mm, Pitch 2.54mm, IPC Medium Density)
footprint NXP-SOT404_L (DPAK, 3-Leads, Body 10.3x9.8mm, Pitch 2.54mm, IPC High Density)
footprint NXP-SOT404_M (DPAK, 3-Leads, Body 10.3x9.8mm, Pitch 2.54mm, IPC Low Density)
pins: 1 G "gate", 3 S "source", 4 D "mounting base; connected to drain"

## BUK9629-100B,118
designator Q?
N-Channel TrenchMOS Logic Level FET, 100 V, 46 A, 3-Pin SOT404, Tape and Reel; Manufacturer: NXP Semiconductors; PartNumber: BUK9629-100B,118; Automotive Qualified: Y; Channel Type: N; ID [max] (A): 46; IDM [max] (A): 186; Packing: Tape & Reel; Qr [typ] (nC): 196; VDS [max] (V): 100; VGSth [typ] (V): 1.5; DatasheetVersion: Rev. 02; PackageVersion: 13-02-25, 02/2013; PackageReference: SOT404; PackageDescription: 3-Pin Plastic Single-ended Surface Mounted Package, Body 10 x 9.6 mm, Pitch 2.54 mm; Supplier 1: Digi-Key; Supplier Part Number 1: 568-5866-2-ND; Supplier 2: Digi-Key; Supplier Part Number 2: 568-5866-1-ND; Supplier 3: Digi-Key; Supplier Part Number 3: 568-5866-6-ND; Supplier 4: Mouser; Supplier Part Number 4: 771-BUK9629-100B118; Mounting Technology: Surface Mount; ComponentLink1Description: Manufacturer URL; ComponentLink1URL: http://www.nxp.com/; ComponentLink2Description: Datasheet; ComponentLink2URL: http://www.nxp.com/documents/data_sheet/BUK9629-100B.pdf; ComponentLink3Description: Package Specification; ComponentLink3URL: http://www.nxp.com/documents/outline_drawing/sot404_po.pdf
footprint NXP-SOT404_N (DPAK, 3-Leads, Body 10.3x9.8mm, Pitch 2.54mm, IPC Medium Density)
footprint NXP-SOT404_L (DPAK, 3-Leads, Body 10.3x9.8mm, Pitch 2.54mm, IPC High Density)
footprint NXP-SOT404_M (DPAK, 3-Leads, Body 10.3x9.8mm, Pitch 2.54mm, IPC Low Density)
pins: 1 G "gate", 3 S "source", 4 D "mounting base; connected to drain"

## BUK9635-55A,118
designator Q?
N-Channel TrenchMOS Logic Level FET, 55 V, 34 A, 3-Pin SOT404, Tape and Reel; Manufacturer: NXP Semiconductors; PartNumber: BUK9635-55A,118; Automotive Qualified: Y; Channel Type: N; ID [max] (A): 34; IDM [max] (A): 133; Packing: Tape & Reel; Qr [typ] (nC): 70; VDS [max] (V): 55; VGSth [typ] (V): 1.5; DatasheetVersion: Rev. 2; PackageVersion: 13-02-25, 02/2013; PackageReference: SOT404; PackageDescription: 3-Pin Plastic Single-ended Surface Mounted Package, Body 10 x 9.6 mm, Pitch 2.54 mm; Supplier 1: Digi-Key; Supplier Part Number 1: 568-9685-2-ND; Supplier 2: Digi-Key; Supplier Part Number 2: 568-9685-1-ND; Supplier 3: Digi-Key; Supplier Part Number 3: 568-9685-6-ND; Supplier 4: Mouser; Supplier Part Number 4: 771-BUK9635-55A118; Mounting Technology: Surface Mount; ComponentLink1Description: Manufacturer URL; ComponentLink1URL: http://www.nxp.com/; ComponentLink2Description: Datasheet; ComponentLink2URL: http://www.nxp.com/documents/data_sheet/BUK9635-55A.pdf; ComponentLink3Description: Package Specification; ComponentLink3URL: http://www.nxp.com/documents/outline_drawing/sot404_po.pdf
footprint NXP-SOT404_N (DPAK, 3-Leads, Body 10.3x9.8mm, Pitch 2.54mm, IPC Medium Density)
footprint NXP-SOT404_L (DPAK, 3-Leads, Body 10.3x9.8mm, Pitch 2.54mm, IPC High Density)
footprint NXP-SOT404_M (DPAK, 3-Leads, Body 10.3x9.8mm, Pitch 2.54mm, IPC Low Density)
pins: 1 G "gate", 3 S "source", 4 D "mounting base; connected to drain"

## BUK9637-100E,118
designator Q?
N-Channel TrenchMOS Logic Level FET, 100 V, 31 A, 3-Pin SOT404, Tape and Reel; Manufacturer: NXP Semiconductors; PartNumber: BUK9637-100E,118; Automotive Qualified: Y; Channel Type: N; ID [max] (A): 31; IDM [max] (A): 123; Packing: Tape & Reel; Qr [typ] (nC): 70.6; VDS [max] (V): 100; VGSth [typ] (V): 1.7; PackageVersion: 13-02-25, 02/2013; PackageReference: SOT404; PackageDescription: 3-Pin Plastic Single-ended Surface Mounted Package, Body 10 x 9.6 mm, Pitch 2.54 mm; Supplier 1: Digi-Key; Supplier Part Number 1: 568-10252-2-ND; Supplier 2: Digi-Key; Supplier Part Number 2: 568-10252-1-ND; Supplier 3: Digi-Key; Supplier Part Number 3: 568-10252-6-ND; Supplier 4: Mouser; Supplier Part Number 4: 771-BUK9637-100E118; Mounting Technology: Surface Mount; ComponentLink1Description: Manufacturer URL; ComponentLink1URL: http://www.nxp.com/; ComponentLink2Description: Datasheet; ComponentLink2URL: http://www.nxp.com/documents/data_sheet/BUK9637-100E.pdf; ComponentLink3Description: Package Specification; ComponentLink3URL: http://www.nxp.com/documents/outline_drawing/sot404_po.pdf
footprint NXP-SOT404_N (DPAK, 3-Leads, Body 10.3x9.8mm, Pitch 2.54mm, IPC Medium Density)
footprint NXP-SOT404_L (DPAK, 3-Leads, Body 10.3x9.8mm, Pitch 2.54mm, IPC High Density)
footprint NXP-SOT404_M (DPAK, 3-Leads, Body 10.3x9.8mm, Pitch 2.54mm, IPC Low Density)
pins: 1 G "gate", 3 S "source", 4 D "mounting base; connected to drain"

## BUK9640-100A,118
designator Q?
N-Channel TrenchMOS Logic Level FET, 100 V, 39 A, 3-Pin SOT404, Tape and Reel; Manufacturer: NXP Semiconductors; PartNumber: BUK9640-100A,118; Automotive Qualified: Y; Channel Type: N; ID [max] (A): 39; IDM [max] (A): 159; Packing: Tape & Reel; Qr [typ] (nC): 240; VDS [max] (V): 100; VGSth [typ] (V): 1.5; PackageVersion: 13-02-25, 02/2013; PackageReference: SOT404; PackageDescription: 3-Pin Plastic Single-ended Surface Mounted Package, Body 10 x 9.6 mm, Pitch 2.54 mm; Supplier 1: Digi-Key; Supplier Part Number 1: 568-9686-2-ND; Supplier 2: Digi-Key; Supplier Part Number 2: 568-9686-1-ND; Supplier 3: Digi-Key; Supplier Part Number 3: 568-9686-6-ND; Supplier 4: Mouser; Supplier Part Number 4: 771-BUK9640-100A118; Mounting Technology: Surface Mount; ComponentLink1Description: Manufacturer URL; ComponentLink1URL: http://www.nxp.com/; ComponentLink2Description: Datasheet; ComponentLink2URL: http://www.nxp.com/documents/data_sheet/BUK9640-100A.pdf; ComponentLink3Description: Package Specification; ComponentLink3URL: http://www.nxp.com/documents/outline_drawing/sot404_po.pdf
footprint NXP-SOT404_N (DPAK, 3-Leads, Body 10.3x9.8mm, Pitch 2.54mm, IPC Medium Density)
footprint NXP-SOT404_L (DPAK, 3-Leads, Body 10.3x9.8mm, Pitch 2.54mm, IPC High Density)
footprint NXP-SOT404_M (DPAK, 3-Leads, Body 10.3x9.8mm, Pitch 2.54mm, IPC Low Density)
pins: 1 G "gate", 3 S "source", 4 D "mounting base; connected to drain"

## BUK9660-100A,118
designator Q?
N-Channel TrenchMOS Logic Level FET, 100 V, 26 A, 3-Pin SOT404, Tape and Reel; Manufacturer: NXP Semiconductors; PartNumber: BUK9660-100A,118; Automotive Qualified: Y; Channel Type: N; ID [max] (A): 26; IDM [max] (A): 106; Packing: Tape & Reel; Qr [typ] (nC): 200; VDS [max] (V): 100; VGSth [typ] (V): 1.5; DatasheetVersion: Rev. 02; PackageVersion: 13-02-25, 02/2013; PackageReference: SOT404; PackageDescription: 3-Pin Plastic Single-ended Surface Mounted Package, Body 10 x 9.6 mm, Pitch 2.54 mm; Supplier 1: Digi-Key; Supplier Part Number 1: 568-9687-2-ND; Supplier 2: Digi-Key; Supplier Part Number 2: 568-9687-1-ND; Supplier 3: Digi-Key; Supplier Part Number 3: 568-9687-6-ND; Supplier 4: Mouser; Supplier Part Number 4: 771-BUK9660-100A118; Mounting Technology: Surface Mount; ComponentLink1Description: Manufacturer URL; ComponentLink1URL: http://www.nxp.com/; ComponentLink2Description: Datasheet; ComponentLink2URL: http://www.nxp.com/documents/data_sheet/BUK9660-100A.pdf; ComponentLink3Description: Package Specification; ComponentLink3URL: http://www.nxp.com/documents/outline_drawing/sot404_po.pdf
footprint NXP-SOT404_N (DPAK, 3-Leads, Body 10.3x9.8mm, Pitch 2.54mm, IPC Medium Density)
footprint NXP-SOT404_L (DPAK, 3-Leads, Body 10.3x9.8mm, Pitch 2.54mm, IPC High Density)
footprint NXP-SOT404_M (DPAK, 3-Leads, Body 10.3x9.8mm, Pitch 2.54mm, IPC Low Density)
pins: 1 G "gate", 3 S "source", 4 D "mounting base; connected to drain"

## BUK9675-55A,118
designator Q?
N-Channel TrenchMOS Logic Level FET, 55 V, 20 A, 3-Pin SOT404, Tape and Reel; Manufacturer: NXP Semiconductors; PartNumber: BUK9675-55A,118; Automotive Qualified: Y; Channel Type: N; ID [max] (A): 20; IDM [max] (A): 81; Packing: Tape & Reel; Qr [typ] (nC): 60; VDS [max] (V): 55; VGSth [typ] (V): 1.5; DatasheetVersion: Rev. 2; PackageVersion: 13-02-25, 02/2013; PackageReference: SOT404; PackageDescription: 3-Pin Plastic Single-ended Surface Mounted Package, Body 10 x 9.6 mm, Pitch 2.54 mm; Supplier 1: Digi-Key; Supplier Part Number 1: 568-9689-2-ND; Supplier 2: Digi-Key; Supplier Part Number 2: 568-9689-1-ND; Supplier 3: Digi-Key; Supplier Part Number 3: 568-9689-6-ND; Supplier 4: Mouser; Supplier Part Number 4: 771-BUK9675-55A118; Mounting Technology: Surface Mount; ComponentLink1Description: Manufacturer URL; ComponentLink1URL: http://www.nxp.com/; ComponentLink2Description: Datasheet; ComponentLink2URL: http://www.nxp.com/documents/data_sheet/BUK9675-55A.pdf; ComponentLink3Description: Package Specification; ComponentLink3URL: http://www.nxp.com/documents/outline_drawing/sot404_po.pdf
footprint NXP-SOT404_N (DPAK, 3-Leads, Body 10.3x9.8mm, Pitch 2.54mm, IPC Medium Density)
footprint NXP-SOT404_L (DPAK, 3-Leads, Body 10.3x9.8mm, Pitch 2.54mm, IPC High Density)
footprint NXP-SOT404_M (DPAK, 3-Leads, Body 10.3x9.8mm, Pitch 2.54mm, IPC Low Density)
pins: 1 G "gate", 3 S "source", 4 D "mounting base; connected to drain"